# Altium footprint library SW.PcbLib: 8 footprints
Each footprint in its own frame and in the unit in brackets; x right, y up, seen from the top. Pads: shape width x height; smd on the part's side, far side on the other; paste and mask are expansions set on the pad; w line width, h text height; cw(c..) or ccw(c..) is an arc to the next point about the centre after c.
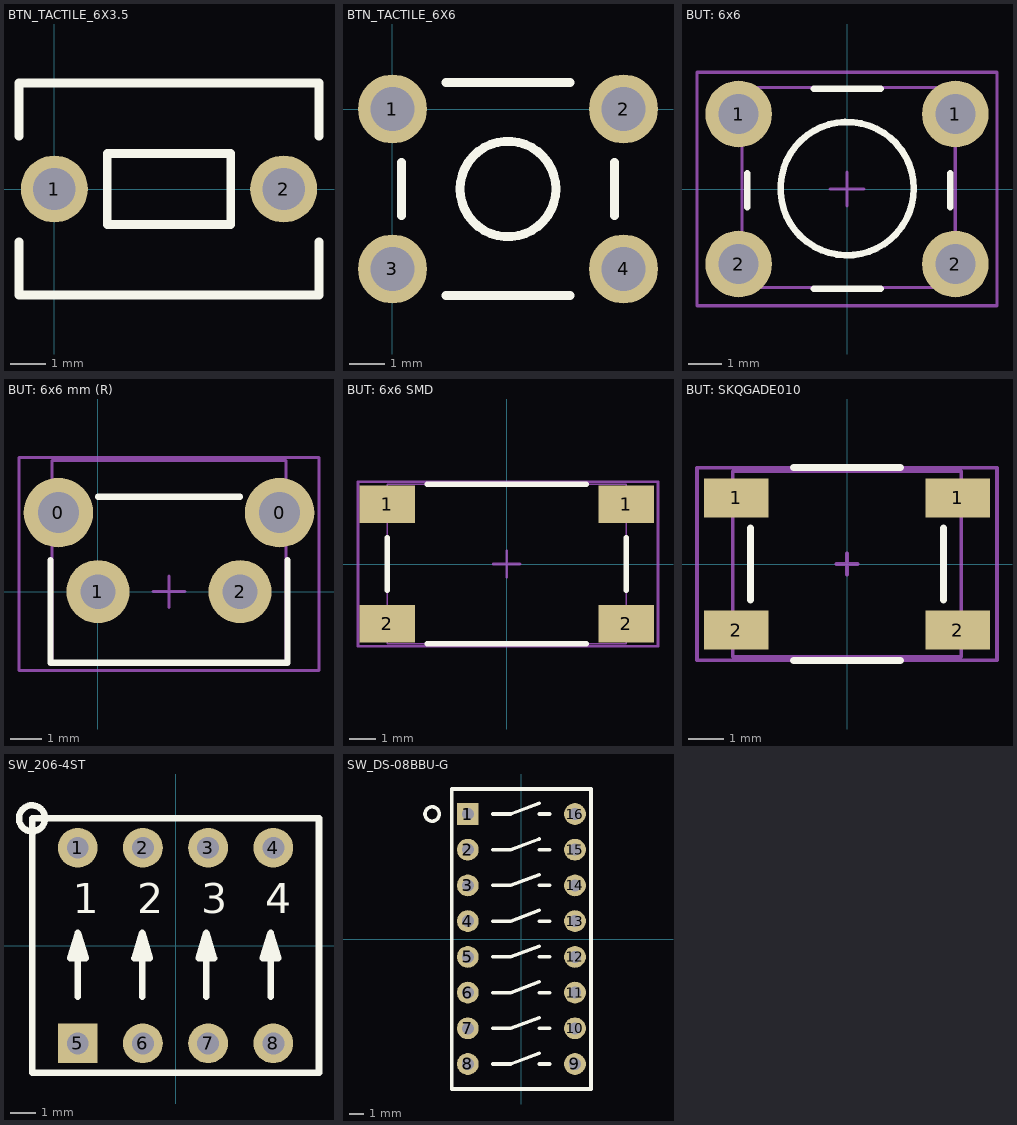
[diagram p0: the footprints below, top view; thin cyan lines are the x and y axes]

## BTN_TACTILE_6X3.5 [mm]
height 4.3
pads (2):
  round 1.9 hole 1.2: 1(0,0) 2(6.5,0)
Top Overlay:
  lines w0.254: -1,-1.5 -1,-3 7.5,-3 7.5,-1.5 ; -1,1.5 -1,3 7.5,3 7.5,1.5 ; 1.5,-1 1.5,1 5,1 5,-1 1.5,-1
3D body: height 4, standoff 0, extent -1,-3 7.5,3
3D body: height 4.5, standoff 0, extent 1.5,-1 5,1

## BTN_TACTILE_6X6 [mm] "SWITCH TACTILE SPST-NO 0.05A 24V"
pads (4):
  round 1.94 hole 1.24: 1(0,0) 2(6.5,0) 3(0,-4.5) 4(6.5,-4.5)
Top Overlay:
  circle w0.254: c3.25,-2.25 r1.346
  lines w0.254: 0.25,-3 0.25,-1.5 ; 1.5,-5.25 5,-5.25 ; 1.5,0.75 5,0.75 ; 6.25,-3 6.25,-1.5
3D body: height 4, standoff 0.68, extent 0.25,-5.25 6.25,0.75
3D body: height 8, standoff 2, extent 1.5,-4 5,-0.5

## BUT: 6x6 [mm] "Leaded Tactile Button 6x6"
height 5
pads (4):
  round 2 hole 1.2: 1(-3.25,2.25) 1(3.25,2.25) 2(-3.25,-2.25) 2(3.25,-2.25)
Top Overlay:
  circle w0.2: c0.004,0.012 r2
  lines w0.2: -2.996,-0.544 -2.996,0.472 ; -0.996,-2.988 1.004,-2.988 ; -0.996,3.012 1.004,3.012 ; 3.1,-0.544 3.1,0.472
TopAssy:
  lines w0.1: -3.148,-2.957 -3.148,3.043 3.252,3.043 3.252,-2.957 -3.148,-2.957
Border:
  lines w0.1: -0.5,0 0.5,0 ; 0,-0.5 0,0.5 ; -4.5,-3.5 -4.5,3.5 4.5,3.5 4.5,-3.5 -4.5,-3.5
3D body "кнопка_тактовая_6х6х1.STEP": height 4.5, standoff -0.9, extent -3.148,-2.957 3.252,3.043

## BUT: 6x6 mm (R) [mm]
height 7.4
pads (4):
  round 2.2 hole 1.3: 0(-1.25,2.5) 0(5.75,2.5)
  round 2 hole 1.1: 1(0,0) 2(4.5,0)
Top Overlay:
  lines w0.2: -1.5,1 -1.5,-2.25 6,-2.25 6,1 ; 0,3 4.5,3
TopAssy:
  lines w0.1: -1.45,-2.3 -1.45,4.15 5.95,4.15 5.95,-2.3 -1.45,-2.3
Border:
  lines w0.1: 1.75,0 2.25,0 ; 2.25,-0.5 2.25,0 ; 2.25,0.5 2.25,0 ; 2.75,0 2.25,0 ; -2.5,-2.5 7,-2.5 7,4.25 -2.5,4.25 -2.5,-2.5
3D body "User Library-SWITCH, TACTILE, RIGHT ANGLE, 12VDC, 50MA, 6_85MM ACTUATOR, WEALTH METAL TC-0244Z-1.STEP": height 7, standoff -4, extent -1.45,-6.85 5.95,4.15

## BUT: 6x6 SMD [mm] "Leaded Tactile Button 6x6"
height 9
pads (4):
  rect 2.1x1.4 smd: 1(-4.5,2.25) 1(4.5,2.25) 2(-4.5,-2.25) 2(4.5,-2.25)
Top Overlay:
  lines w0.2: -4.5,-1 -4.5,1 ; -3,-3 3,-3 ; -3,3 3,3 ; 4.5,-1 4.5,1
TopAssy:
  lines w0.05: -4.5,-3 -4.5,3 4.5,3 4.5,-3 -4.5,-3
Border:
  lines w0.1: -0.5,0 0.5,0 ; 0,-0.5 0,0.5 ; -5.6,-3.1 -5.6,3.1 5.7,3.1 5.7,-3.1 -5.6,-3.1
3D body "User Library-PTS645SL43SMTR92-LFS.STEP": height 4.3, standoff 0, extent -4.5,-3 4.5,3

## BUT: SKQGADE010 [mm]
pads (4):
  rect 1.8x1.1 smd: 1(-3.1,1.85) 1(3.1,1.85) 2(-3.1,-1.85) 2(3.1,-1.85)
Top Overlay:
  lines w0.2: -2.7,-1 -2.7,1 ; -1.5,-2.7 1.5,-2.7 ; -1.5,2.7 1.5,2.7 ; 2.7,-1 2.7,1
TopAssy:
  lines w0.1: -3.2,-2.6 -3.2,2.6 3.2,2.6 3.2,-2.6 -3.2,-2.6
Border:
  lines w0.1: -0.3,0 0.3,0 ; 0,-0.3 0,0.3 ; -4.2,-2.7 4.2,-2.7 4.2,2.7 -4.2,2.7 -4.2,-2.7
3D body "User Library-4x4_SMD_Switch.STEP": height 1.45, standoff -0.05, extent -3.2,-2.6 3.2,2.6

## SW_206-4ST [mm]
pads (8):
  round 1.55 hole 0.85: 1(-3.81,3.81) 2(-1.27,3.81) 3(1.27,3.81) 4(3.81,3.81) 6(-1.27,-3.81) 7(1.27,-3.81) 8(3.81,-3.81)
  rect 1.55x1.55 hole 0.85: 5(-3.81,-3.81)
Top Overlay:
  circle w0.254: c-5.588,4.953 r0.508
  lines w0.254: -3.8,-2 -3.8,0.5 ; -1.3,-2 -1.3,0.5 ; 1.2,-2 1.2,0.5 ; 3.7,-2 3.7,0.5 ; -3.8,0.5 -4.1,-0.5 -3.5,-0.5 -3.8,0.5 ; -1.3,0.5 -1.6,-0.5 -1,-0.5 -1.3,0.5 ; 1.2,0.5 0.9,-0.5 1.5,-0.5 1.2,0.5 ; 3.7,0.5 3.4,-0.5 4,-0.5 3.7,0.5 ; -5.588,-4.953 -5.588,4.953 5.588,4.953 5.588,-4.953 -5.588,-4.953
  text "1" at -4,0.87 h2
  text "2" at -1.498,0.875 h2
  text "3" at 1,0.876 h2
  text "4" at 3.5,0.875 h2
3D body: height 9.2, standoff 0, extent 3,0.5 4.5,3
3D body: height 9.2, standoff 0, extent 0.5,0.5 2,3
3D body: height 9.2, standoff 0, extent -2,0.5 -0.5,3
3D body: height 9.2, standoff 0, extent -4.5,0.5 -3,3
3D body: height 7, standoff 0, extent -5.544,-3.5 5.5,3.477
3D body: height 9.2, standoff 0, extent -5.544,-4.976 5.5,-3.023
3D body: height 9.2, standoff 0, extent -5.544,3.024 5.5,4.977
3D body: height 9.2, standoff 0, extent 4.5,-4.953 5.5,4.953
3D body: height 9.2, standoff 0, extent 2,-4.953 3,4.953
3D body: height 9.2, standoff 0, extent -0.5,-4.953 0.5,4.953
3D body: height 9.2, standoff 0, extent -3,-4.953 -2,4.953
3D body: height 9.2, standoff 0, extent -5.588,-4.953 -4.5,4.953

## SW_DS-08BBU-G [mm]
pads (16):
  rect 1.55x1.55 hole 0.85: 1(-3.81,8.89)
  round 1.55 hole 0.85: 2(-3.81,6.35) 3(-3.81,3.81) 4(-3.81,1.27) 5(-3.81,-1.27) 6(-3.81,-3.81) 7(-3.81,-6.35) 8(-3.81,-8.89) 9(3.81,-8.89) 10(3.81,-6.35) 11(3.81,-3.81) 12(3.81,-1.27) 13(3.81,1.27) 14(3.81,3.81) 15(3.81,6.35) 16(3.81,8.89)
Top Overlay:
  circle w0.254: c-6.35,8.89 r0.508
  lines w0.254: -2.032,-8.89 -0.762,-8.89 1.27,-8.128 ; -2.032,-6.35 -0.762,-6.35 1.27,-5.588 ; -2.032,-3.81 -0.762,-3.81 1.27,-3.048 ; -2.032,-1.27 -0.762,-1.27 1.27,-0.508 ; -2.032,1.27 -0.762,1.27 1.27,2.032 ; -2.032,3.81 -0.762,3.81 1.27,4.572 ; -2.032,6.35 -0.762,6.35 1.27,7.112 ; -2.032,8.89 -0.762,8.89 1.27,9.652 ; 1.27,-8.89 2.032,-8.89 ; 1.27,-6.35 2.032,-6.35 ; 1.27,-3.81 2.032,-3.81 ; 1.27,-1.27 2.032,-1.27 ; 1.27,1.27 2.032,1.27 ; 1.27,3.81 2.032,3.81 ; 1.27,6.35 2.032,6.35 ; 1.27,8.89 2.032,8.89 ; -4.953,-10.668 4.953,-10.668 4.953,10.668 -4.953,10.668 -4.953,-10.668
3D body: height 9.2, standoff 0, extent -4.953,-10.668 4.953,10.668